# Altium footprint library chin modules.PcbLib: 2 footprints
Each footprint in its own frame and in the unit in brackets; x right, y up, seen from the top. Pads: shape width x height; smd on the part's side, far side on the other; paste and mask are expansions set on the pad; w line width, h text height; cw(c..) or ccw(c..) is an arc to the next point about the centre after c.
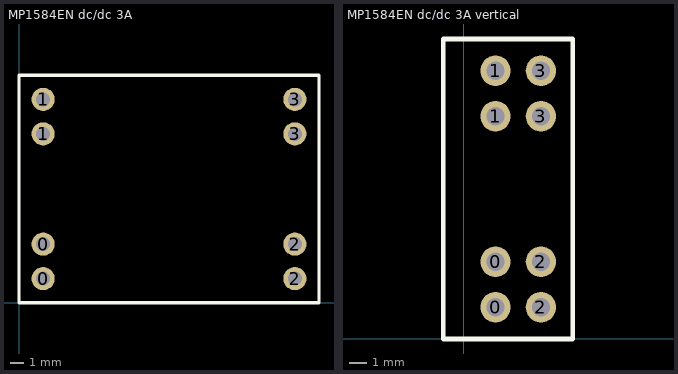
[diagram p0: the footprints below, top view; thin cyan lines are the x and y axes]

## MP1584EN dc/dc 3A [mm]
height 2
pads (8):
  round 1.7 hole 1.02: 0(1.778,1.778) 0(1.778,4.318) 1(1.778,12.446) 1(1.778,14.986) 2(20.32,1.778) 2(20.32,4.318) 3(20.32,12.446) 3(20.32,14.986)
Top Overlay:
  lines w0.254: 0,0 0,16.764 22.098,16.764 22.098,0 0,0

## MP1584EN dc/dc 3A vertical [mm]
height 25
pads (8):
  round 1.7 hole 1.02: 0(1.778,1.778) 0(1.778,4.318) 1(1.778,12.446) 1(1.778,14.986) 2(4.318,1.778) 2(4.318,4.318) 3(4.318,12.446) 3(4.318,14.986)
Top Overlay:
  lines w0.254: -1.143,0 6.096,0 6.096,16.764 -1.143,16.764 -1.143,0